# Altium schematic symbol library MP6539BGV-P.SchLib: 1 symbol
Pins are listed as number, name and electrical type; pins without a type are passive.

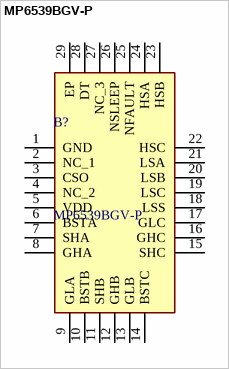
[diagram p0: symbol MP6539BGV-P]

## MP6539BGV-P
designator B?
Motor / Motion / Ignition Controllers & Drivers 100V, Three-Phase BLDC Motor Pre-Driver; Manufacturer_Name: Monolithic Power Systems (MPS); Geometry.Height: 1mm; Mouser Part Number: 946-MP6539BGV-P; Mouser Price/Stock: https://www.mouser.co.uk/ProductDetail/Monolithic-Power-Systems-MPS/MP6539BGV-P?qs=%252B6g0mu59x7LXLktXwsZfUQ%3D%3D; Manufacturer_Part_Number: MP6539BGV-P; Datasheet Link: https://www.monolithicpower.com/en/documentview/productdocument/index/version/2/document_type/Datasheet/lang/en/sku/MP6539B/document_id/5051/
footprint QFN50P400X500X100-29N
pins: 1 GND, 2 NC_1, 3 CSO, 4 NC_2, 5 VDD, 6 BSTA, 7 SHA, 8 GHA, 9 GLA, 10 BSTB, 11 SHB, 12 GHB, 13 GLB, 14 BSTC, 15 SHC, 16 GHC, 17 GLC, 18 LSS, 19 LSC, 20 LSB, 21 LSA, 22 HSC, 23 HSB, 24 HSA, 25 NFAULT, 26 NSLEEP, 27 NC_3, 28 DT, 29 EP